# EAGLE library part RFM69* (library HopeRF)
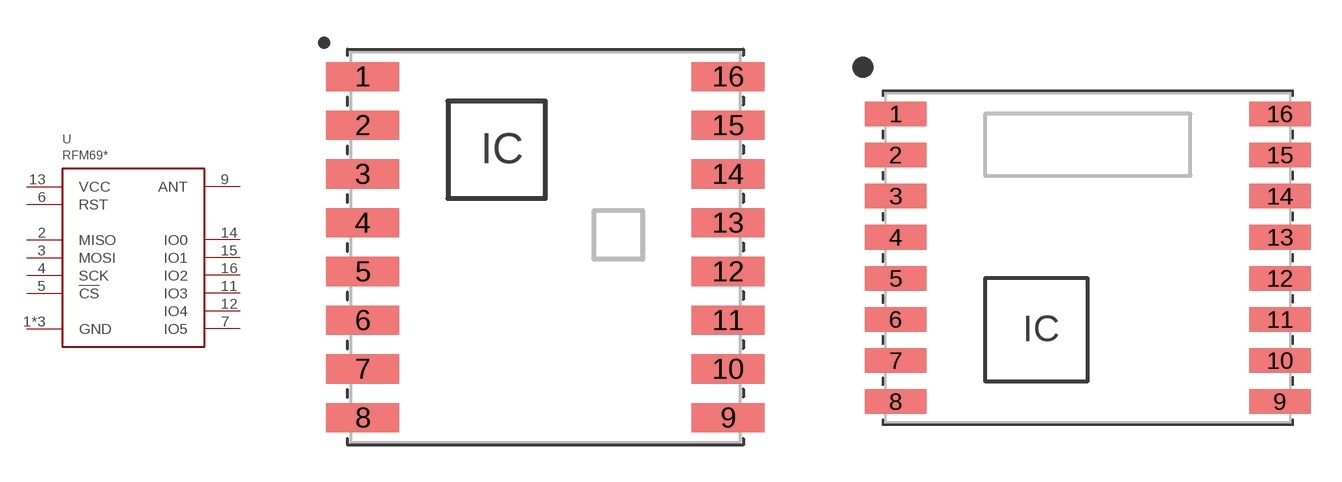
[diagram p0: symbol with the pads of RFM69HCW-XXXS2; footprints RFM69HCW-XXXS2, RFM69XW-XXXS2]

Designator prefix U

## RFM69HCW  [RFM69HCW-XXXS2]
1  GND  pwr
2  MISO
3  MOSI  in
4  SCK  in
5  !CS  in
6  RST  in
7  IO5
8  GND  pwr
9  ANT  pas
10  GND  pwr
11  IO3
12  IO4
13  VCC  pwr
14  IO0
15  IO1
16  IO2

## RFM69W, RFM69HW  [RFM69XW-XXXS2]
1  RST  in
2  IO0
3  IO1
4  IO2
5  IO3
6  IO4
7  IO5
8  VCC  pwr
9  GND  pwr
10  ANT  pas
11  GND  pwr
12  SCK  in
13  MISO
14  MOSI  in
15  !CS  in

## RFM69CW  [RFM69CW-XXXS2]
1  ANT  pas
2  VCC  pwr
3  GND  pwr
4  IO3
5  MOSI  in
6  SCK  in
7  !CS  in
8  MISO
9  IO0
10  IO2
11  IO1
12  IO5
13  RST  in
14  GND  pwr
NC  IO4

## Footprint RFM69HCW-XXXS2 (pad centres in mm)
Hope RF RFM69HCW RF Transciever Datasheet <http://www.orcam.eu/res/Datablad/rfm69hcwv11.pdf>
smd 3 x 1.2: 1 -7.5,7; 2 -7.5,5; 3 -7.5,3; 4 -7.5,1; 5 -7.5,-1; 6 -7.5,-3; 7 -7.5,-5; 8 -7.5,-7; 9 7.5,-7; 10 7.5,-5; 11 7.5,-3; 12 7.5,-1; 13 7.5,1; 14 7.5,3; 15 7.5,5; 16 7.5,7

## Footprint RFM69XW-XXXS2 (pad centres in mm)
Hope RF RFM69HW RF Transceiver Datasheet <http://www.hoperf.com/upload/rf/RFM69HW-V1.3.pdf>
smd 3 x 1.2: 1 -9.35,7; 2 -9.35,5; 3 -9.35,3; 4 -9.35,1; 5 -9.35,-1; 6 -9.35,-3; 7 -9.35,-5; 8 -9.35,-7; 9 9.35,-7; 10 9.35,-5; 11 9.35,-3; 12 9.35,-1; 13 9.35,1; 14 9.35,3; 15 9.35,5; 16 9.35,7

## Footprint RFM69CW-XXXS2 (pad centres in mm)
Hope RF RFM69HCW RF Transciever Datasheet <http://www.orcam.eu/res/Datablad/rfm69hcwv11.pdf>
smd 3 x 1.2: 1 -7.5,6; 2 -7.5,4; 3 -7.5,2; 4 -7.5,0; 5 -7.5,-2; 6 -7.5,-4; 7 -7.5,-6; 8 7.5,-6; 9 7.5,-4; 10 7.5,-2; 11 7.5,0; 12 7.5,2; 13 7.5,4; 14 7.5,6
smd 0 x 0: NC -7.62,7.62